# EAGLE library part ADP2323 (library ic-AD)
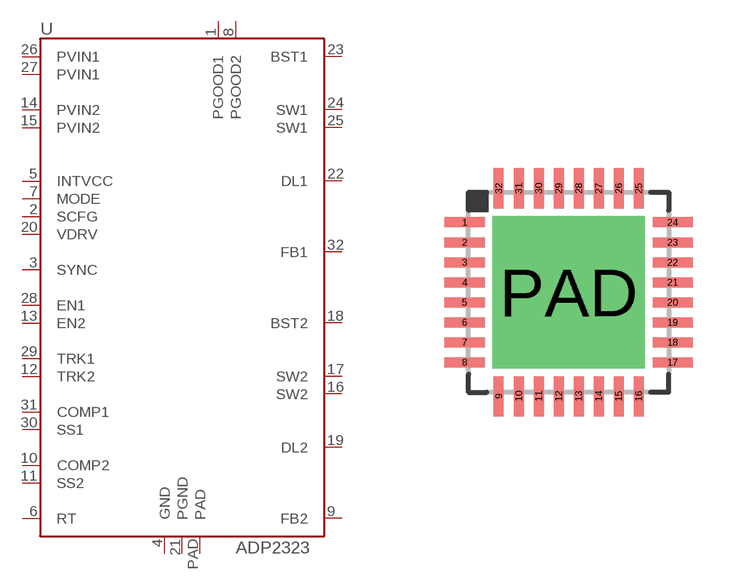
[diagram p1: symbol with the pads of QFN32-0.5; footprint QFN32-0.5]

Designator prefix U

## ADP2323  [QFN32-0.5]
1  PGOOD1
2  SCFG
3  SYNC
4  GND
5  INTVCC
6  RT
7  MODE
8  PGOOD2
9  FB2
10  COMP2
11  SS2
12  TRK2
13  EN2
14  PVIN2
15  PVIN2
16  SW2
17  SW2
18  BST2
19  DL2
20  VDRV
21  PGND
22  DL1
23  BST1
24  SW1
25  SW1
26  PVIN1
27  PVIN1
28  EN1
29  TRK1
30  SS1
31  COMP1
32  FB1
PAD  PAD

## Footprint QFN32-0.5 (pad centres in mm)
smd 1 x 0.25: 1 -2.6,1.75; 2 -2.6,1.25; 3 -2.6,0.75; 4 -2.6,0.25; 5 -2.6,-0.25; 6 -2.6,-0.75; 7 -2.6,-1.25; 8 -2.6,-1.75; 17 2.6,-1.75; 18 2.6,-1.25; 19 2.6,-0.75; 20 2.6,-0.25; 21 2.6,0.25; 22 2.6,0.75; 23 2.6,1.25; 24 2.6,1.75
smd 0.25 x 1: 9 -1.75,-2.6; 10 -1.25,-2.6; 11 -0.75,-2.6; 12 -0.25,-2.6; 13 0.25,-2.6; 14 0.75,-2.6; 15 1.25,-2.6; 16 1.75,-2.6; 25 1.75,2.6; 26 1.25,2.6; 27 0.75,2.6; 28 0.25,2.6; 29 -0.25,2.6; 30 -0.75,2.6; 31 -1.25,2.6; 32 -1.75,2.6
drill 2.8 pad 3.5 square: PAD 0,0